# Altium footprint library Microchip PIC32MZ.PcbLib: 15 footprints
Each footprint in its own frame and in the unit in brackets; x right, y up, seen from the top. Pads: shape width x height; smd on the part's side, far side on the other; paste and mask are expansions set on the pad; w line width, h text height; cw(c..) or ccw(c..) is an arc to the next point about the centre after c.
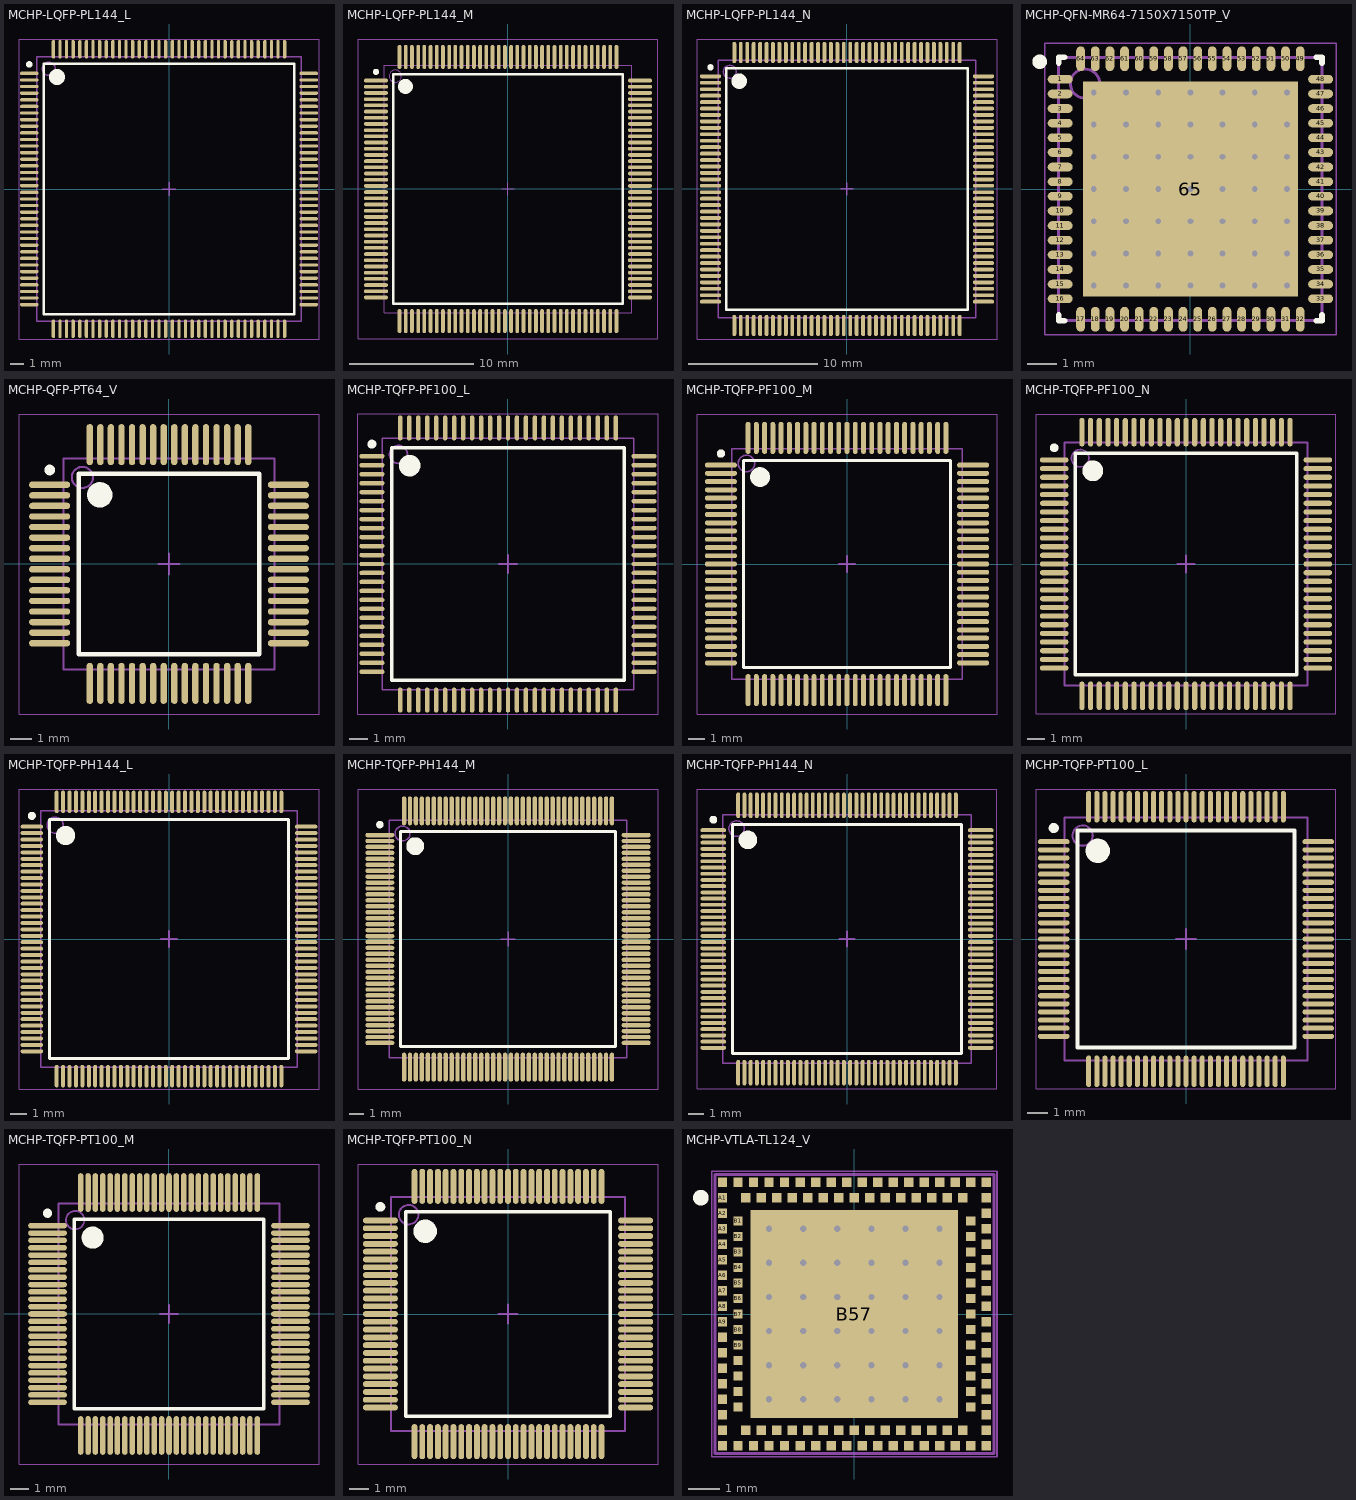
[diagram p0: the footprints below, top view; thin cyan lines are the x and y axes]

## MCHP-LQFP-PL144_L [mm] "QFP, 144-Leads, Body 20x20mm, Pitch 0.5mm, IPC High Density"
height 1.6
pads (144):
  oval 1.4x0.25 smd: 1(-10.575,8.75) 2(-10.575,8.25) 3(-10.575,7.75) 4(-10.575,7.25) 5(-10.575,6.75) 6(-10.575,6.25) 7(-10.575,5.75) 8(-10.575,5.25) 9(-10.575,4.75) 10(-10.575,4.25) 11(-10.575,3.75) 12(-10.575,3.25) 13(-10.575,2.75) 14(-10.575,2.25) 15(-10.575,1.75) 16(-10.575,1.25) 17(-10.575,0.75) 18(-10.575,0.25) 19(-10.575,-0.25) 20(-10.575,-0.75) 21(-10.575,-1.25) 22(-10.575,-1.75) 23(-10.575,-2.25) 24(-10.575,-2.75) 25(-10.575,-3.25) 26(-10.575,-3.75) 27(-10.575,-4.25) 28(-10.575,-4.75) 29(-10.575,-5.25) 30(-10.575,-5.75) 31(-10.575,-6.25) 32(-10.575,-6.75) 33(-10.575,-7.25) 34(-10.575,-7.75) 35(-10.575,-8.25) 36(-10.575,-8.75) 73(10.575,-8.75) 74(10.575,-8.25) 75(10.575,-7.75) 76(10.575,-7.25) 77(10.575,-6.75) 78(10.575,-6.25) 79(10.575,-5.75) 80(10.575,-5.25) 81(10.575,-4.75) 82(10.575,-4.25) 83(10.575,-3.75) 84(10.575,-3.25) 85(10.575,-2.75) 86(10.575,-2.25) 87(10.575,-1.75) 88(10.575,-1.25) 89(10.575,-0.75) 90(10.575,-0.25) 91(10.575,0.25) 92(10.575,0.75) 93(10.575,1.25) 94(10.575,1.75) 95(10.575,2.25) 96(10.575,2.75) 97(10.575,3.25) 98(10.575,3.75) 99(10.575,4.25) 100(10.575,4.75) 101(10.575,5.25) 102(10.575,5.75) 103(10.575,6.25) 104(10.575,6.75) 105(10.575,7.25) 106(10.575,7.75) 107(10.575,8.25) 108(10.575,8.75)
  oval 0.25x1.4 smd: 37(-8.75,-10.575) 38(-8.25,-10.575) 39(-7.75,-10.575) 40(-7.25,-10.575) 41(-6.75,-10.575) 42(-6.25,-10.575) 43(-5.75,-10.575) 44(-5.25,-10.575) 45(-4.75,-10.575) 46(-4.25,-10.575) 47(-3.75,-10.575) 48(-3.25,-10.575) 49(-2.75,-10.575) 50(-2.25,-10.575) 51(-1.75,-10.575) 52(-1.25,-10.575) 53(-0.75,-10.575) 54(-0.25,-10.575) 55(0.25,-10.575) 56(0.75,-10.575) 57(1.25,-10.575) 58(1.75,-10.575) 59(2.25,-10.575) 60(2.75,-10.575) 61(3.25,-10.575) 62(3.75,-10.575) 63(4.25,-10.575) 64(4.75,-10.575) 65(5.25,-10.575) 66(5.75,-10.575) 67(6.25,-10.575) 68(6.75,-10.575) 69(7.25,-10.575) 70(7.75,-10.575) 71(8.25,-10.575) 72(8.75,-10.575) 109(8.75,10.575) 110(8.25,10.575) 111(7.75,10.575) 112(7.25,10.575) 113(6.75,10.575) 114(6.25,10.575) 115(5.75,10.575) 116(5.25,10.575) 117(4.75,10.575) 118(4.25,10.575) 119(3.75,10.575) 120(3.25,10.575) 121(2.75,10.575) 122(2.25,10.575) 123(1.75,10.575) 124(1.25,10.575) 125(0.75,10.575) 126(0.25,10.575) 127(-0.25,10.575) 128(-0.75,10.575) 129(-1.25,10.575) 130(-1.75,10.575) 131(-2.25,10.575) 132(-2.75,10.575) 133(-3.25,10.575) 134(-3.75,10.575) 135(-4.25,10.575) 136(-4.75,10.575) 137(-5.25,10.575) 138(-5.75,10.575) 139(-6.25,10.575) 140(-6.75,10.575) 141(-7.25,10.575) 142(-7.75,10.575) 143(-8.25,10.575) 144(-8.75,10.575)
Top Overlay:
  circle w0.25: c-10.575,9.425 r0.125
  circle w0.6: c-8.475,8.475 r0.3
  lines w0.2: -9.475,-9.475 -9.475,9.475 9.475,9.475 9.475,-9.475 -9.475,-9.475
Mechanical 13:
  circle w0.1: c-9.1,9.1 r0.5
  lines w0.1: -10,-10 -10,10 10,10 10,-10 -10,-10
Mechanical 15:
  lines w0.05: -11.35,-11.35 -11.35,11.35 11.35,11.35 11.35,-11.35 -11.35,-11.35
  lines w0.1: -0.5,0 0.5,0 ; 0,-0.5 0,0.5
3D body: height 1.6, standoff 0.05, extent -10,-10 10,10

## MCHP-LQFP-PL144_M [mm] "QFP, 144-Leads, Body 20x20mm, Pitch 0.5mm, IPC Low Density"
height 1.6
pads (144):
  oval 1.95x0.3 smd: 1(-10.65,8.75) 2(-10.65,8.25) 3(-10.65,7.75) 4(-10.65,7.25) 5(-10.65,6.75) 6(-10.65,6.25) 7(-10.65,5.75) 8(-10.65,5.25) 9(-10.65,4.75) 10(-10.65,4.25) 11(-10.65,3.75) 12(-10.65,3.25) 13(-10.65,2.75) 14(-10.65,2.25) 15(-10.65,1.75) 16(-10.65,1.25) 17(-10.65,0.75) 18(-10.65,0.25) 19(-10.65,-0.25) 20(-10.65,-0.75) 21(-10.65,-1.25) 22(-10.65,-1.75) 23(-10.65,-2.25) 24(-10.65,-2.75) 25(-10.65,-3.25) 26(-10.65,-3.75) 27(-10.65,-4.25) 28(-10.65,-4.75) 29(-10.65,-5.25) 30(-10.65,-5.75) 31(-10.65,-6.25) 32(-10.65,-6.75) 33(-10.65,-7.25) 34(-10.65,-7.75) 35(-10.65,-8.25) 36(-10.65,-8.75) 73(10.65,-8.75) 74(10.65,-8.25) 75(10.65,-7.75) 76(10.65,-7.25) 77(10.65,-6.75) 78(10.65,-6.25) 79(10.65,-5.75) 80(10.65,-5.25) 81(10.65,-4.75) 82(10.65,-4.25) 83(10.65,-3.75) 84(10.65,-3.25) 85(10.65,-2.75) 86(10.65,-2.25) 87(10.65,-1.75) 88(10.65,-1.25) 89(10.65,-0.75) 90(10.65,-0.25) 91(10.65,0.25) 92(10.65,0.75) 93(10.65,1.25) 94(10.65,1.75) 95(10.65,2.25) 96(10.65,2.75) 97(10.65,3.25) 98(10.65,3.75) 99(10.65,4.25) 100(10.65,4.75) 101(10.65,5.25) 102(10.65,5.75) 103(10.65,6.25) 104(10.65,6.75) 105(10.65,7.25) 106(10.65,7.75) 107(10.65,8.25) 108(10.65,8.75)
  oval 0.3x1.95 smd: 37(-8.75,-10.65) 38(-8.25,-10.65) 39(-7.75,-10.65) 40(-7.25,-10.65) 41(-6.75,-10.65) 42(-6.25,-10.65) 43(-5.75,-10.65) 44(-5.25,-10.65) 45(-4.75,-10.65) 46(-4.25,-10.65) 47(-3.75,-10.65) 48(-3.25,-10.65) 49(-2.75,-10.65) 50(-2.25,-10.65) 51(-1.75,-10.65) 52(-1.25,-10.65) 53(-0.75,-10.65) 54(-0.25,-10.65) 55(0.25,-10.65) 56(0.75,-10.65) 57(1.25,-10.65) 58(1.75,-10.65) 59(2.25,-10.65) 60(2.75,-10.65) 61(3.25,-10.65) 62(3.75,-10.65) 63(4.25,-10.65) 64(4.75,-10.65) 65(5.25,-10.65) 66(5.75,-10.65) 67(6.25,-10.65) 68(6.75,-10.65) 69(7.25,-10.65) 70(7.75,-10.65) 71(8.25,-10.65) 72(8.75,-10.65) 109(8.75,10.65) 110(8.25,10.65) 111(7.75,10.65) 112(7.25,10.65) 113(6.75,10.65) 114(6.25,10.65) 115(5.75,10.65) 116(5.25,10.65) 117(4.75,10.65) 118(4.25,10.65) 119(3.75,10.65) 120(3.25,10.65) 121(2.75,10.65) 122(2.25,10.65) 123(1.75,10.65) 124(1.25,10.65) 125(0.75,10.65) 126(0.25,10.65) 127(-0.25,10.65) 128(-0.75,10.65) 129(-1.25,10.65) 130(-1.75,10.65) 131(-2.25,10.65) 132(-2.75,10.65) 133(-3.25,10.65) 134(-3.75,10.65) 135(-4.25,10.65) 136(-4.75,10.65) 137(-5.25,10.65) 138(-5.75,10.65) 139(-6.25,10.65) 140(-6.75,10.65) 141(-7.25,10.65) 142(-7.75,10.65) 143(-8.25,10.65) 144(-8.75,10.65)
Top Overlay:
  circle w0.25: c-10.65,9.45 r0.125
  circle w0.6: c-8.275,8.275 r0.3
  lines w0.2: -9.275,-9.275 -9.275,9.275 9.275,9.275 9.275,-9.275 -9.275,-9.275
Mechanical 13:
  circle w0.1: c-9.1,9.1 r0.5
  lines w0.1: -10,-10 -10,10 10,10 10,-10 -10,-10
Mechanical 15:
  lines w0.05: -12.1,-12.1 -12.1,12.1 12.1,12.1 12.1,-12.1 -12.1,-12.1
  lines w0.1: -0.5,0 0.5,0 ; 0,-0.5 0,0.5
3D body: height 1.6, standoff 0.05, extent -10,-10 10,10

## MCHP-LQFP-PL144_N [mm] "QFP, 144-Leads, Body 20x20mm, Pitch 0.5mm, IPC Medium Density"
height 1.6
pads (144):
  oval 1.65x0.3 smd: 1(-10.6,8.75) 2(-10.6,8.25) 3(-10.6,7.75) 4(-10.6,7.25) 5(-10.6,6.75) 6(-10.6,6.25) 7(-10.6,5.75) 8(-10.6,5.25) 9(-10.6,4.75) 10(-10.6,4.25) 11(-10.6,3.75) 12(-10.6,3.25) 13(-10.6,2.75) 14(-10.6,2.25) 15(-10.6,1.75) 16(-10.6,1.25) 17(-10.6,0.75) 18(-10.6,0.25) 19(-10.6,-0.25) 20(-10.6,-0.75) 21(-10.6,-1.25) 22(-10.6,-1.75) 23(-10.6,-2.25) 24(-10.6,-2.75) 25(-10.6,-3.25) 26(-10.6,-3.75) 27(-10.6,-4.25) 28(-10.6,-4.75) 29(-10.6,-5.25) 30(-10.6,-5.75) 31(-10.6,-6.25) 32(-10.6,-6.75) 33(-10.6,-7.25) 34(-10.6,-7.75) 35(-10.6,-8.25) 36(-10.6,-8.75) 73(10.6,-8.75) 74(10.6,-8.25) 75(10.6,-7.75) 76(10.6,-7.25) 77(10.6,-6.75) 78(10.6,-6.25) 79(10.6,-5.75) 80(10.6,-5.25) 81(10.6,-4.75) 82(10.6,-4.25) 83(10.6,-3.75) 84(10.6,-3.25) 85(10.6,-2.75) 86(10.6,-2.25) 87(10.6,-1.75) 88(10.6,-1.25) 89(10.6,-0.75) 90(10.6,-0.25) 91(10.6,0.25) 92(10.6,0.75) 93(10.6,1.25) 94(10.6,1.75) 95(10.6,2.25) 96(10.6,2.75) 97(10.6,3.25) 98(10.6,3.75) 99(10.6,4.25) 100(10.6,4.75) 101(10.6,5.25) 102(10.6,5.75) 103(10.6,6.25) 104(10.6,6.75) 105(10.6,7.25) 106(10.6,7.75) 107(10.6,8.25) 108(10.6,8.75)
  oval 0.3x1.65 smd: 37(-8.75,-10.6) 38(-8.25,-10.6) 39(-7.75,-10.6) 40(-7.25,-10.6) 41(-6.75,-10.6) 42(-6.25,-10.6) 43(-5.75,-10.6) 44(-5.25,-10.6) 45(-4.75,-10.6) 46(-4.25,-10.6) 47(-3.75,-10.6) 48(-3.25,-10.6) 49(-2.75,-10.6) 50(-2.25,-10.6) 51(-1.75,-10.6) 52(-1.25,-10.6) 53(-0.75,-10.6) 54(-0.25,-10.6) 55(0.25,-10.6) 56(0.75,-10.6) 57(1.25,-10.6) 58(1.75,-10.6) 59(2.25,-10.6) 60(2.75,-10.6) 61(3.25,-10.6) 62(3.75,-10.6) 63(4.25,-10.6) 64(4.75,-10.6) 65(5.25,-10.6) 66(5.75,-10.6) 67(6.25,-10.6) 68(6.75,-10.6) 69(7.25,-10.6) 70(7.75,-10.6) 71(8.25,-10.6) 72(8.75,-10.6) 109(8.75,10.6) 110(8.25,10.6) 111(7.75,10.6) 112(7.25,10.6) 113(6.75,10.6) 114(6.25,10.6) 115(5.75,10.6) 116(5.25,10.6) 117(4.75,10.6) 118(4.25,10.6) 119(3.75,10.6) 120(3.25,10.6) 121(2.75,10.6) 122(2.25,10.6) 123(1.75,10.6) 124(1.25,10.6) 125(0.75,10.6) 126(0.25,10.6) 127(-0.25,10.6) 128(-0.75,10.6) 129(-1.25,10.6) 130(-1.75,10.6) 131(-2.25,10.6) 132(-2.75,10.6) 133(-3.25,10.6) 134(-3.75,10.6) 135(-4.25,10.6) 136(-4.75,10.6) 137(-5.25,10.6) 138(-5.75,10.6) 139(-6.25,10.6) 140(-6.75,10.6) 141(-7.25,10.6) 142(-7.75,10.6) 143(-8.25,10.6) 144(-8.75,10.6)
Top Overlay:
  circle w0.25: c-10.6,9.45 r0.125
  circle w0.6: c-8.375,8.375 r0.3
  lines w0.2: -9.375,-9.375 -9.375,9.375 9.375,9.375 9.375,-9.375 -9.375,-9.375
Mechanical 13:
  circle w0.1: c-9.1,9.1 r0.5
  lines w0.1: -10,-10 -10,10 10,10 10,-10 -10,-10
Mechanical 15:
  lines w0.05: -11.65,-11.65 -11.65,11.65 11.65,11.65 11.65,-11.65 -11.65,-11.65
  lines w0.1: -0.5,0 0.5,0 ; 0,-0.5 0,0.5
3D body: height 1.6, standoff 0.05, extent -10,-10 10,10

## MCHP-QFN-MR64-7150X7150TP_V [mm] "QFN, 64-Leads, Body 9x9mm, Pitch 0.5mm, Thermal Pad 7.15X7.15mm"
height 0.8
pads (65):
  oval 0.85x0.3 smd: 1(-4.45,3.75) 2(-4.45,3.25) 3(-4.45,2.75) 4(-4.45,2.25) 5(-4.45,1.75) 6(-4.45,1.25) 7(-4.45,0.75) 8(-4.45,0.25) 9(-4.45,-0.25) 10(-4.45,-0.75) 11(-4.45,-1.25) 12(-4.45,-1.75) 13(-4.45,-2.25) 14(-4.45,-2.75) 15(-4.45,-3.25) 16(-4.45,-3.75) 33(4.45,-3.75) 34(4.45,-3.25) 35(4.45,-2.75) 36(4.45,-2.25) 37(4.45,-1.75) 38(4.45,-1.25) 39(4.45,-0.75) 40(4.45,-0.25) 41(4.45,0.25) 42(4.45,0.75) 43(4.45,1.25) 44(4.45,1.75) 45(4.45,2.25) 46(4.45,2.75) 47(4.45,3.25) 48(4.45,3.75)
  oval 0.3x0.85 smd: 17(-3.75,-4.45) 18(-3.25,-4.45) 19(-2.75,-4.45) 20(-2.25,-4.45) 21(-1.75,-4.45) 22(-1.25,-4.45) 23(-0.75,-4.45) 24(-0.25,-4.45) 25(0.25,-4.45) 26(0.75,-4.45) 27(1.25,-4.45) 28(1.75,-4.45) 29(2.25,-4.45) 30(2.75,-4.45) 31(3.25,-4.45) 32(3.75,-4.45) 49(3.75,4.45) 50(3.25,4.45) 51(2.75,4.45) 52(2.25,4.45) 53(1.75,4.45) 54(1.25,4.45) 55(0.75,4.45) 56(0.25,4.45) 57(-0.25,4.45) 58(-0.75,4.45) 59(-1.25,4.45) 60(-1.75,4.45) 61(-2.25,4.45) 62(-2.75,4.45) 63(-3.25,4.45) 64(-3.75,4.45)
  rect 7.35x7.35 smd: 65(0,0)
via -3.3,3.3 diameter 0.5 hole 0.2
via -2.2,3.3 diameter 0.5 hole 0.2
via -1.1,3.3 diameter 0.5 hole 0.2
via 0,3.3 diameter 0.5 hole 0.2
via 1.1,3.3 diameter 0.5 hole 0.2
via 2.2,3.3 diameter 0.5 hole 0.2
via 3.3,3.3 diameter 0.5 hole 0.2
via -3.3,2.2 diameter 0.5 hole 0.2
via -2.2,2.2 diameter 0.5 hole 0.2
via -1.1,2.2 diameter 0.5 hole 0.2
via 0,2.2 diameter 0.5 hole 0.2
via 1.1,2.2 diameter 0.5 hole 0.2
via 2.2,2.2 diameter 0.5 hole 0.2
via 3.3,2.2 diameter 0.5 hole 0.2
via -3.3,1.1 diameter 0.5 hole 0.2
via -2.2,1.1 diameter 0.5 hole 0.2
via -1.1,1.1 diameter 0.5 hole 0.2
via 0,1.1 diameter 0.5 hole 0.2
via 1.1,1.1 diameter 0.5 hole 0.2
via 2.2,1.1 diameter 0.5 hole 0.2
via 3.3,1.1 diameter 0.5 hole 0.2
via -3.3,0 diameter 0.5 hole 0.2
via -2.2,0 diameter 0.5 hole 0.2
via -1.1,0 diameter 0.5 hole 0.2
via 0,0 diameter 0.5 hole 0.2
via 1.1,0 diameter 0.5 hole 0.2
via 2.2,0 diameter 0.5 hole 0.2
via 3.3,0 diameter 0.5 hole 0.2
via -3.3,-1.1 diameter 0.5 hole 0.2
via -2.2,-1.1 diameter 0.5 hole 0.2
via -1.1,-1.1 diameter 0.5 hole 0.2
via 0,-1.1 diameter 0.5 hole 0.2
via 1.1,-1.1 diameter 0.5 hole 0.2
via 2.2,-1.1 diameter 0.5 hole 0.2
via 3.3,-1.1 diameter 0.5 hole 0.2
via -3.3,-2.2 diameter 0.5 hole 0.2
via -2.2,-2.2 diameter 0.5 hole 0.2
via -1.1,-2.2 diameter 0.5 hole 0.2
via 0,-2.2 diameter 0.5 hole 0.2
via 1.1,-2.2 diameter 0.5 hole 0.2
via 2.2,-2.2 diameter 0.5 hole 0.2
via 3.3,-2.2 diameter 0.5 hole 0.2
via -3.3,-3.3 diameter 0.5 hole 0.2
via -2.2,-3.3 diameter 0.5 hole 0.2
via -1.1,-3.3 diameter 0.5 hole 0.2
via 0,-3.3 diameter 0.5 hole 0.2
via 1.1,-3.3 diameter 0.5 hole 0.2
via 2.2,-3.3 diameter 0.5 hole 0.2
via 3.3,-3.3 diameter 0.5 hole 0.2
Top Overlay:
  circle w0.25: c-5.15,4.35 r0.125
  lines w0.2: -4.5,-4.3 -4.5,-4.5 -4.3,-4.5 ; -4.5,4.3 -4.5,4.5 -4.3,4.5 ; 4.3,-4.5 4.5,-4.5 4.5,-4.3 ; 4.3,4.5 4.5,4.5 4.5,4.3
Mechanical 13:
  circle w0.1: c-3.6,3.6 r0.5
  lines w0.1: -4.5,-4.5 -4.5,4.5 4.5,4.5 4.5,-4.5 -4.5,-4.5
Mechanical 15:
  lines w0.05: -4.975,-4.975 -4.975,4.975 4.975,4.975 4.975,-4.975 -4.975,-4.975
  lines w0.1: -0.5,0 0.5,0 ; 0,-0.5 0,0.5
3D body: height 0.8, standoff 0, extent -4.5,-4.5 4.5,4.5

## MCHP-QFP-PT64_V [mm] "QFP, 64-Leads, Body 10x10mm, Pitch 0.5mm"
height 1.2
pads (64):
  oval 1.95x0.3 smd: 1(-5.65,3.75) 2(-5.65,3.25) 3(-5.65,2.75) 4(-5.65,2.25) 5(-5.65,1.75) 6(-5.65,1.25) 7(-5.65,0.75) 8(-5.65,0.25) 9(-5.65,-0.25) 10(-5.65,-0.75) 11(-5.65,-1.25) 12(-5.65,-1.75) 13(-5.65,-2.25) 14(-5.65,-2.75) 15(-5.65,-3.25) 16(-5.65,-3.75) 33(5.65,-3.75) 34(5.65,-3.25) 35(5.65,-2.75) 36(5.65,-2.25) 37(5.65,-1.75) 38(5.65,-1.25) 39(5.65,-0.75) 40(5.65,-0.25) 41(5.65,0.25) 42(5.65,0.75) 43(5.65,1.25) 44(5.65,1.75) 45(5.65,2.25) 46(5.65,2.75) 47(5.65,3.25) 48(5.65,3.75)
  oval 0.3x1.95 smd: 17(-3.75,-5.65) 18(-3.25,-5.65) 19(-2.75,-5.65) 20(-2.25,-5.65) 21(-1.75,-5.65) 22(-1.25,-5.65) 23(-0.75,-5.65) 24(-0.25,-5.65) 25(0.25,-5.65) 26(0.75,-5.65) 27(1.25,-5.65) 28(1.75,-5.65) 29(2.25,-5.65) 30(2.75,-5.65) 31(3.25,-5.65) 32(3.75,-5.65) 49(3.75,5.65) 50(3.25,5.65) 51(2.75,5.65) 52(2.25,5.65) 53(1.75,5.65) 54(1.25,5.65) 55(0.75,5.65) 56(0.25,5.65) 57(-0.25,5.65) 58(-0.75,5.65) 59(-1.25,5.65) 60(-1.75,5.65) 61(-2.25,5.65) 62(-2.75,5.65) 63(-3.25,5.65) 64(-3.75,5.65)
Top Overlay:
  circle w0.6: c-3.275,3.275 r0.3
  circle w0.25: c-5.65,4.45 r0.125
  lines w0.2: -4.275,-4.275 4.275,-4.275 4.275,4.275 -4.275,4.275 -4.275,-4.275
Mechanical 13:
  circle w0.1: c-4.1,4.1 r0.5
  lines w0.1: -5,-5 5,-5 5,5 -5,5 -5,-5
Mechanical 15:
  lines w0.05: -7.1,-7.1 7.1,-7.1 7.1,7.1 -7.1,7.1 -7.1,-7.1
  lines w0.1: -0.5,0 0.5,0 ; 0,-0.5 0,0.5
3D body: height 1.2, standoff 0.05, extent -5,-5 5,5

## MCHP-TQFP-PF100_L [mm] "QFP, 100-Leads, Body 14x14mm, Pitch 0.5mm, IPC High Density"
height 1.2
pads (100):
  oval 1.4x0.25 smd: 1(-7.575,6) 2(-7.575,5.5) 3(-7.575,5) 4(-7.575,4.5) 5(-7.575,4) 6(-7.575,3.5) 7(-7.575,3) 8(-7.575,2.5) 9(-7.575,2) 10(-7.575,1.5) 11(-7.575,1) 12(-7.575,0.5) 13(-7.575,0) 14(-7.575,-0.5) 15(-7.575,-1) 16(-7.575,-1.5) 17(-7.575,-2) 18(-7.575,-2.5) 19(-7.575,-3) 20(-7.575,-3.5) 21(-7.575,-4) 22(-7.575,-4.5) 23(-7.575,-5) 24(-7.575,-5.5) 25(-7.575,-6) 51(7.575,-6) 52(7.575,-5.5) 53(7.575,-5) 54(7.575,-4.5) 55(7.575,-4) 56(7.575,-3.5) 57(7.575,-3) 58(7.575,-2.5) 59(7.575,-2) 60(7.575,-1.5) 61(7.575,-1) 62(7.575,-0.5) 63(7.575,0) 64(7.575,0.5) 65(7.575,1) 66(7.575,1.5) 67(7.575,2) 68(7.575,2.5) 69(7.575,3) 70(7.575,3.5) 71(7.575,4) 72(7.575,4.5) 73(7.575,5) 74(7.575,5.5) 75(7.575,6)
  oval 0.25x1.4 smd: 26(-6,-7.575) 27(-5.5,-7.575) 28(-5,-7.575) 29(-4.5,-7.575) 30(-4,-7.575) 31(-3.5,-7.575) 32(-3,-7.575) 33(-2.5,-7.575) 34(-2,-7.575) 35(-1.5,-7.575) 36(-1,-7.575) 37(-0.5,-7.575) 38(0,-7.575) 39(0.5,-7.575) 40(1,-7.575) 41(1.5,-7.575) 42(2,-7.575) 43(2.5,-7.575) 44(3,-7.575) 45(3.5,-7.575) 46(4,-7.575) 47(4.5,-7.575) 48(5,-7.575) 49(5.5,-7.575) 50(6,-7.575) 76(6,7.575) 77(5.5,7.575) 78(5,7.575) 79(4.5,7.575) 80(4,7.575) 81(3.5,7.575) 82(3,7.575) 83(2.5,7.575) 84(2,7.575) 85(1.5,7.575) 86(1,7.575) 87(0.5,7.575) 88(0,7.575) 89(-0.5,7.575) 90(-1,7.575) 91(-1.5,7.575) 92(-2,7.575) 93(-2.5,7.575) 94(-3,7.575) 95(-3.5,7.575) 96(-4,7.575) 97(-4.5,7.575) 98(-5,7.575) 99(-5.5,7.575) 100(-6,7.575)
Top Overlay:
  circle w0.25: c-7.575,6.675 r0.125
  circle w0.6: c-5.475,5.475 r0.3
  lines w0.2: -6.475,-6.475 -6.475,6.475 6.475,6.475 6.475,-6.475 -6.475,-6.475
Mechanical 13:
  circle w0.1: c-6.1,6.1 r0.5
  lines w0.1: -7,-7 -7,7 7,7 7,-7 -7,-7
Mechanical 15:
  lines w0.05: -8.35,-8.35 -8.35,8.35 8.35,8.35 8.35,-8.35 -8.35,-8.35
  lines w0.1: -0.5,0 0.5,0 ; 0,-0.5 0,0.5
3D body: height 1.2, standoff 0.05, extent -7,-7 7,7

## MCHP-TQFP-PF100_M [mm] "QFP, 100-Leads, Body 14x14mm, Pitch 0.5mm, IPC Low Density"
height 1.2
pads (100):
  oval 1.95x0.3 smd: 1(-7.65,6) 2(-7.65,5.5) 3(-7.65,5) 4(-7.65,4.5) 5(-7.65,4) 6(-7.65,3.5) 7(-7.65,3) 8(-7.65,2.5) 9(-7.65,2) 10(-7.65,1.5) 11(-7.65,1) 12(-7.65,0.5) 13(-7.65,0) 14(-7.65,-0.5) 15(-7.65,-1) 16(-7.65,-1.5) 17(-7.65,-2) 18(-7.65,-2.5) 19(-7.65,-3) 20(-7.65,-3.5) 21(-7.65,-4) 22(-7.65,-4.5) 23(-7.65,-5) 24(-7.65,-5.5) 25(-7.65,-6) 51(7.65,-6) 52(7.65,-5.5) 53(7.65,-5) 54(7.65,-4.5) 55(7.65,-4) 56(7.65,-3.5) 57(7.65,-3) 58(7.65,-2.5) 59(7.65,-2) 60(7.65,-1.5) 61(7.65,-1) 62(7.65,-0.5) 63(7.65,0) 64(7.65,0.5) 65(7.65,1) 66(7.65,1.5) 67(7.65,2) 68(7.65,2.5) 69(7.65,3) 70(7.65,3.5) 71(7.65,4) 72(7.65,4.5) 73(7.65,5) 74(7.65,5.5) 75(7.65,6)
  oval 0.3x1.95 smd: 26(-6,-7.65) 27(-5.5,-7.65) 28(-5,-7.65) 29(-4.5,-7.65) 30(-4,-7.65) 31(-3.5,-7.65) 32(-3,-7.65) 33(-2.5,-7.65) 34(-2,-7.65) 35(-1.5,-7.65) 36(-1,-7.65) 37(-0.5,-7.65) 38(0,-7.65) 39(0.5,-7.65) 40(1,-7.65) 41(1.5,-7.65) 42(2,-7.65) 43(2.5,-7.65) 44(3,-7.65) 45(3.5,-7.65) 46(4,-7.65) 47(4.5,-7.65) 48(5,-7.65) 49(5.5,-7.65) 50(6,-7.65) 76(6,7.65) 77(5.5,7.65) 78(5,7.65) 79(4.5,7.65) 80(4,7.65) 81(3.5,7.65) 82(3,7.65) 83(2.5,7.65) 84(2,7.65) 85(1.5,7.65) 86(1,7.65) 87(0.5,7.65) 88(0,7.65) 89(-0.5,7.65) 90(-1,7.65) 91(-1.5,7.65) 92(-2,7.65) 93(-2.5,7.65) 94(-3,7.65) 95(-3.5,7.65) 96(-4,7.65) 97(-4.5,7.65) 98(-5,7.65) 99(-5.5,7.65) 100(-6,7.65)
Top Overlay:
  circle w0.25: c-7.65,6.7 r0.125
  circle w0.6: c-5.275,5.275 r0.3
  lines w0.2: -6.275,-6.275 -6.275,6.275 6.275,6.275 6.275,-6.275 -6.275,-6.275
Mechanical 13:
  circle w0.1: c-6.1,6.1 r0.5
  lines w0.1: -7,-7 -7,7 7,7 7,-7 -7,-7
Mechanical 15:
  lines w0.05: -9.1,-9.1 -9.1,9.1 9.1,9.1 9.1,-9.1 -9.1,-9.1
  lines w0.1: -0.5,0 0.5,0 ; 0,-0.5 0,0.5
3D body: height 1.2, standoff 0.05, extent -7,-7 7,7

## MCHP-TQFP-PF100_N [mm] "QFP, 100-Leads, Body 14x14mm, Pitch 0.5mm, IPC Medium Density"
height 1.2
pads (100):
  oval 1.65x0.3 smd: 1(-7.6,6) 2(-7.6,5.5) 3(-7.6,5) 4(-7.6,4.5) 5(-7.6,4) 6(-7.6,3.5) 7(-7.6,3) 8(-7.6,2.5) 9(-7.6,2) 10(-7.6,1.5) 11(-7.6,1) 12(-7.6,0.5) 13(-7.6,0) 14(-7.6,-0.5) 15(-7.6,-1) 16(-7.6,-1.5) 17(-7.6,-2) 18(-7.6,-2.5) 19(-7.6,-3) 20(-7.6,-3.5) 21(-7.6,-4) 22(-7.6,-4.5) 23(-7.6,-5) 24(-7.6,-5.5) 25(-7.6,-6) 51(7.6,-6) 52(7.6,-5.5) 53(7.6,-5) 54(7.6,-4.5) 55(7.6,-4) 56(7.6,-3.5) 57(7.6,-3) 58(7.6,-2.5) 59(7.6,-2) 60(7.6,-1.5) 61(7.6,-1) 62(7.6,-0.5) 63(7.6,0) 64(7.6,0.5) 65(7.6,1) 66(7.6,1.5) 67(7.6,2) 68(7.6,2.5) 69(7.6,3) 70(7.6,3.5) 71(7.6,4) 72(7.6,4.5) 73(7.6,5) 74(7.6,5.5) 75(7.6,6)
  oval 0.3x1.65 smd: 26(-6,-7.6) 27(-5.5,-7.6) 28(-5,-7.6) 29(-4.5,-7.6) 30(-4,-7.6) 31(-3.5,-7.6) 32(-3,-7.6) 33(-2.5,-7.6) 34(-2,-7.6) 35(-1.5,-7.6) 36(-1,-7.6) 37(-0.5,-7.6) 38(0,-7.6) 39(0.5,-7.6) 40(1,-7.6) 41(1.5,-7.6) 42(2,-7.6) 43(2.5,-7.6) 44(3,-7.6) 45(3.5,-7.6) 46(4,-7.6) 47(4.5,-7.6) 48(5,-7.6) 49(5.5,-7.6) 50(6,-7.6) 76(6,7.6) 77(5.5,7.6) 78(5,7.6) 79(4.5,7.6) 80(4,7.6) 81(3.5,7.6) 82(3,7.6) 83(2.5,7.6) 84(2,7.6) 85(1.5,7.6) 86(1,7.6) 87(0.5,7.6) 88(0,7.6) 89(-0.5,7.6) 90(-1,7.6) 91(-1.5,7.6) 92(-2,7.6) 93(-2.5,7.6) 94(-3,7.6) 95(-3.5,7.6) 96(-4,7.6) 97(-4.5,7.6) 98(-5,7.6) 99(-5.5,7.6) 100(-6,7.6)
Top Overlay:
  circle w0.25: c-7.6,6.7 r0.125
  circle w0.6: c-5.375,5.375 r0.3
  lines w0.2: -6.375,-6.375 -6.375,6.375 6.375,6.375 6.375,-6.375 -6.375,-6.375
Mechanical 13:
  circle w0.1: c-6.1,6.1 r0.5
  lines w0.1: -7,-7 -7,7 7,7 7,-7 -7,-7
Mechanical 15:
  lines w0.05: -8.65,-8.65 -8.65,8.65 8.65,8.65 8.65,-8.65 -8.65,-8.65
  lines w0.1: -0.5,0 0.5,0 ; 0,-0.5 0,0.5
3D body: height 1.2, standoff 0.05, extent -7,-7 7,7

## MCHP-TQFP-PH144_L [mm] "QFP, 144-Leads, Body 16x16mm, Pitch 0.4mm, IPC High Density"
height 1.2
pads (144):
  oval 1.4x0.25 smd: 1(-8.55,7) 2(-8.55,6.6) 3(-8.55,6.2) 4(-8.55,5.8) 5(-8.55,5.4) 6(-8.55,5) 7(-8.55,4.6) 8(-8.55,4.2) 9(-8.55,3.8) 10(-8.55,3.4) 11(-8.55,3) 12(-8.55,2.6) 13(-8.55,2.2) 14(-8.55,1.8) 15(-8.55,1.4) 16(-8.55,1) 17(-8.55,0.6) 18(-8.55,0.2) 19(-8.55,-0.2) 20(-8.55,-0.6) 21(-8.55,-1) 22(-8.55,-1.4) 23(-8.55,-1.8) 24(-8.55,-2.2) 25(-8.55,-2.6) 26(-8.55,-3) 27(-8.55,-3.4) 28(-8.55,-3.8) 29(-8.55,-4.2) 30(-8.55,-4.6) 31(-8.55,-5) 32(-8.55,-5.4) 33(-8.55,-5.8) 34(-8.55,-6.2) 35(-8.55,-6.6) 36(-8.55,-7) 73(8.55,-7) 74(8.55,-6.6) 75(8.55,-6.2) 76(8.55,-5.8) 77(8.55,-5.4) 78(8.55,-5) 79(8.55,-4.6) 80(8.55,-4.2) 81(8.55,-3.8) 82(8.55,-3.4) 83(8.55,-3) 84(8.55,-2.6) 85(8.55,-2.2) 86(8.55,-1.8) 87(8.55,-1.4) 88(8.55,-1) 89(8.55,-0.6) 90(8.55,-0.2) 91(8.55,0.2) 92(8.55,0.6) 93(8.55,1) 94(8.55,1.4) 95(8.55,1.8) 96(8.55,2.2) 97(8.55,2.6) 98(8.55,3) 99(8.55,3.4) 100(8.55,3.8) 101(8.55,4.2) 102(8.55,4.6) 103(8.55,5) 104(8.55,5.4) 105(8.55,5.8) 106(8.55,6.2) 107(8.55,6.6) 108(8.55,7)
  oval 0.25x1.4 smd: 37(-7,-8.55) 38(-6.6,-8.55) 39(-6.2,-8.55) 40(-5.8,-8.55) 41(-5.4,-8.55) 42(-5,-8.55) 43(-4.6,-8.55) 44(-4.2,-8.55) 45(-3.8,-8.55) 46(-3.4,-8.55) 47(-3,-8.55) 48(-2.6,-8.55) 49(-2.2,-8.55) 50(-1.8,-8.55) 51(-1.4,-8.55) 52(-1,-8.55) 53(-0.6,-8.55) 54(-0.2,-8.55) 55(0.2,-8.55) 56(0.6,-8.55) 57(1,-8.55) 58(1.4,-8.55) 59(1.8,-8.55) 60(2.2,-8.55) 61(2.6,-8.55) 62(3,-8.55) 63(3.4,-8.55) 64(3.8,-8.55) 65(4.2,-8.55) 66(4.6,-8.55) 67(5,-8.55) 68(5.4,-8.55) 69(5.8,-8.55) 70(6.2,-8.55) 71(6.6,-8.55) 72(7,-8.55) 109(7,8.55) 110(6.6,8.55) 111(6.2,8.55) 112(5.8,8.55) 113(5.4,8.55) 114(5,8.55) 115(4.6,8.55) 116(4.2,8.55) 117(3.8,8.55) 118(3.4,8.55) 119(3,8.55) 120(2.6,8.55) 121(2.2,8.55) 122(1.8,8.55) 123(1.4,8.55) 124(1,8.55) 125(0.6,8.55) 126(0.2,8.55) 127(-0.2,8.55) 128(-0.6,8.55) 129(-1,8.55) 130(-1.4,8.55) 131(-1.8,8.55) 132(-2.2,8.55) 133(-2.6,8.55) 134(-3,8.55) 135(-3.4,8.55) 136(-3.8,8.55) 137(-4.2,8.55) 138(-4.6,8.55) 139(-5,8.55) 140(-5.4,8.55) 141(-5.8,8.55) 142(-6.2,8.55) 143(-6.6,8.55) 144(-7,8.55)
Top Overlay:
  circle w0.25: c-8.55,7.675 r0.125
  circle w0.6: c-6.45,6.45 r0.3
  lines w0.2: -7.45,-7.45 -7.45,7.45 7.45,7.45 7.45,-7.45 -7.45,-7.45
Mechanical 13:
  circle w0.1: c-7.1,7.1 r0.5
  lines w0.1: -8,-8 -8,8 8,8 8,-8 -8,-8
Mechanical 15:
  lines w0.05: -9.35,-9.35 -9.35,9.35 9.35,9.35 9.35,-9.35 -9.35,-9.35
  lines w0.1: -0.5,0 0.5,0 ; 0,-0.5 0,0.5
3D body: height 1.2, standoff 0.05, extent -8,-8 8,8

## MCHP-TQFP-PH144_M [mm] "QFP, 144-Leads, Body 16x16mm, Pitch 0.4mm, IPC Low Density"
height 1.2
pads (144):
  oval 1.95x0.3 smd: 1(-8.625,7) 2(-8.625,6.6) 3(-8.625,6.2) 4(-8.625,5.8) 5(-8.625,5.4) 6(-8.625,5) 7(-8.625,4.6) 8(-8.625,4.2) 9(-8.625,3.8) 10(-8.625,3.4) 11(-8.625,3) 12(-8.625,2.6) 13(-8.625,2.2) 14(-8.625,1.8) 15(-8.625,1.4) 16(-8.625,1) 17(-8.625,0.6) 18(-8.625,0.2) 19(-8.625,-0.2) 20(-8.625,-0.6) 21(-8.625,-1) 22(-8.625,-1.4) 23(-8.625,-1.8) 24(-8.625,-2.2) 25(-8.625,-2.6) 26(-8.625,-3) 27(-8.625,-3.4) 28(-8.625,-3.8) 29(-8.625,-4.2) 30(-8.625,-4.6) 31(-8.625,-5) 32(-8.625,-5.4) 33(-8.625,-5.8) 34(-8.625,-6.2) 35(-8.625,-6.6) 36(-8.625,-7) 73(8.625,-7) 74(8.625,-6.6) 75(8.625,-6.2) 76(8.625,-5.8) 77(8.625,-5.4) 78(8.625,-5) 79(8.625,-4.6) 80(8.625,-4.2) 81(8.625,-3.8) 82(8.625,-3.4) 83(8.625,-3) 84(8.625,-2.6) 85(8.625,-2.2) 86(8.625,-1.8) 87(8.625,-1.4) 88(8.625,-1) 89(8.625,-0.6) 90(8.625,-0.2) 91(8.625,0.2) 92(8.625,0.6) 93(8.625,1) 94(8.625,1.4) 95(8.625,1.8) 96(8.625,2.2) 97(8.625,2.6) 98(8.625,3) 99(8.625,3.4) 100(8.625,3.8) 101(8.625,4.2) 102(8.625,4.6) 103(8.625,5) 104(8.625,5.4) 105(8.625,5.8) 106(8.625,6.2) 107(8.625,6.6) 108(8.625,7)
  oval 0.3x1.95 smd: 37(-7,-8.625) 38(-6.6,-8.625) 39(-6.2,-8.625) 40(-5.8,-8.625) 41(-5.4,-8.625) 42(-5,-8.625) 43(-4.6,-8.625) 44(-4.2,-8.625) 45(-3.8,-8.625) 46(-3.4,-8.625) 47(-3,-8.625) 48(-2.6,-8.625) 49(-2.2,-8.625) 50(-1.8,-8.625) 51(-1.4,-8.625) 52(-1,-8.625) 53(-0.6,-8.625) 54(-0.2,-8.625) 55(0.2,-8.625) 56(0.6,-8.625) 57(1,-8.625) 58(1.4,-8.625) 59(1.8,-8.625) 60(2.2,-8.625) 61(2.6,-8.625) 62(3,-8.625) 63(3.4,-8.625) 64(3.8,-8.625) 65(4.2,-8.625) 66(4.6,-8.625) 67(5,-8.625) 68(5.4,-8.625) 69(5.8,-8.625) 70(6.2,-8.625) 71(6.6,-8.625) 72(7,-8.625) 109(7,8.625) 110(6.6,8.625) 111(6.2,8.625) 112(5.8,8.625) 113(5.4,8.625) 114(5,8.625) 115(4.6,8.625) 116(4.2,8.625) 117(3.8,8.625) 118(3.4,8.625) 119(3,8.625) 120(2.6,8.625) 121(2.2,8.625) 122(1.8,8.625) 123(1.4,8.625) 124(1,8.625) 125(0.6,8.625) 126(0.2,8.625) 127(-0.2,8.625) 128(-0.6,8.625) 129(-1,8.625) 130(-1.4,8.625) 131(-1.8,8.625) 132(-2.2,8.625) 133(-2.6,8.625) 134(-3,8.625) 135(-3.4,8.625) 136(-3.8,8.625) 137(-4.2,8.625) 138(-4.6,8.625) 139(-5,8.625) 140(-5.4,8.625) 141(-5.8,8.625) 142(-6.2,8.625) 143(-6.6,8.625) 144(-7,8.625)
Top Overlay:
  circle w0.25: c-8.625,7.7 r0.125
  circle w0.6: c-6.25,6.25 r0.3
  lines w0.2: -7.25,-7.25 -7.25,7.25 7.25,7.25 7.25,-7.25 -7.25,-7.25
Mechanical 13:
  circle w0.1: c-7.1,7.1 r0.5
  lines w0.1: -8,-8 -8,8 8,8 8,-8 -8,-8
Mechanical 15:
  lines w0.05: -10.1,-10.1 -10.1,10.1 10.1,10.1 10.1,-10.1 -10.1,-10.1
  lines w0.1: -0.5,0 0.5,0 ; 0,-0.5 0,0.5
3D body: height 1.2, standoff 0.05, extent -8,-8 8,8

## MCHP-TQFP-PH144_N [mm] "QFP, 144-Leads, Body 16x16mm, Pitch 0.4mm, IPC Medium Density"
height 1.2
pads (144):
  oval 1.65x0.25 smd: 1(-8.6,7) 2(-8.6,6.6) 3(-8.6,6.2) 4(-8.6,5.8) 5(-8.6,5.4) 6(-8.6,5) 7(-8.6,4.6) 8(-8.6,4.2) 9(-8.6,3.8) 10(-8.6,3.4) 11(-8.6,3) 12(-8.6,2.6) 13(-8.6,2.2) 14(-8.6,1.8) 15(-8.6,1.4) 16(-8.6,1) 17(-8.6,0.6) 18(-8.6,0.2) 19(-8.6,-0.2) 20(-8.6,-0.6) 21(-8.6,-1) 22(-8.6,-1.4) 23(-8.6,-1.8) 24(-8.6,-2.2) 25(-8.6,-2.6) 26(-8.6,-3) 27(-8.6,-3.4) 28(-8.6,-3.8) 29(-8.6,-4.2) 30(-8.6,-4.6) 31(-8.6,-5) 32(-8.6,-5.4) 33(-8.6,-5.8) 34(-8.6,-6.2) 35(-8.6,-6.6) 36(-8.6,-7) 73(8.6,-7) 74(8.6,-6.6) 75(8.6,-6.2) 76(8.6,-5.8) 77(8.6,-5.4) 78(8.6,-5) 79(8.6,-4.6) 80(8.6,-4.2) 81(8.6,-3.8) 82(8.6,-3.4) 83(8.6,-3) 84(8.6,-2.6) 85(8.6,-2.2) 86(8.6,-1.8) 87(8.6,-1.4) 88(8.6,-1) 89(8.6,-0.6) 90(8.6,-0.2) 91(8.6,0.2) 92(8.6,0.6) 93(8.6,1) 94(8.6,1.4) 95(8.6,1.8) 96(8.6,2.2) 97(8.6,2.6) 98(8.6,3) 99(8.6,3.4) 100(8.6,3.8) 101(8.6,4.2) 102(8.6,4.6) 103(8.6,5) 104(8.6,5.4) 105(8.6,5.8) 106(8.6,6.2) 107(8.6,6.6) 108(8.6,7)
  oval 0.25x1.65 smd: 37(-7,-8.6) 38(-6.6,-8.6) 39(-6.2,-8.6) 40(-5.8,-8.6) 41(-5.4,-8.6) 42(-5,-8.6) 43(-4.6,-8.6) 44(-4.2,-8.6) 45(-3.8,-8.6) 46(-3.4,-8.6) 47(-3,-8.6) 48(-2.6,-8.6) 49(-2.2,-8.6) 50(-1.8,-8.6) 51(-1.4,-8.6) 52(-1,-8.6) 53(-0.6,-8.6) 54(-0.2,-8.6) 55(0.2,-8.6) 56(0.6,-8.6) 57(1,-8.6) 58(1.4,-8.6) 59(1.8,-8.6) 60(2.2,-8.6) 61(2.6,-8.6) 62(3,-8.6) 63(3.4,-8.6) 64(3.8,-8.6) 65(4.2,-8.6) 66(4.6,-8.6) 67(5,-8.6) 68(5.4,-8.6) 69(5.8,-8.6) 70(6.2,-8.6) 71(6.6,-8.6) 72(7,-8.6) 109(7,8.6) 110(6.6,8.6) 111(6.2,8.6) 112(5.8,8.6) 113(5.4,8.6) 114(5,8.6) 115(4.6,8.6) 116(4.2,8.6) 117(3.8,8.6) 118(3.4,8.6) 119(3,8.6) 120(2.6,8.6) 121(2.2,8.6) 122(1.8,8.6) 123(1.4,8.6) 124(1,8.6) 125(0.6,8.6) 126(0.2,8.6) 127(-0.2,8.6) 128(-0.6,8.6) 129(-1,8.6) 130(-1.4,8.6) 131(-1.8,8.6) 132(-2.2,8.6) 133(-2.6,8.6) 134(-3,8.6) 135(-3.4,8.6) 136(-3.8,8.6) 137(-4.2,8.6) 138(-4.6,8.6) 139(-5,8.6) 140(-5.4,8.6) 141(-5.8,8.6) 142(-6.2,8.6) 143(-6.6,8.6) 144(-7,8.6)
Top Overlay:
  circle w0.25: c-8.6,7.675 r0.125
  circle w0.6: c-6.375,6.375 r0.3
  lines w0.2: -7.375,-7.375 -7.375,7.375 7.375,7.375 7.375,-7.375 -7.375,-7.375
Mechanical 13:
  circle w0.1: c-7.1,7.1 r0.5
  lines w0.1: -8,-8 -8,8 8,8 8,-8 -8,-8
Mechanical 15:
  lines w0.05: -9.65,-9.65 -9.65,9.65 9.65,9.65 9.65,-9.65 -9.65,-9.65
  lines w0.1: -0.5,0 0.5,0 ; 0,-0.5 0,0.5
3D body: height 1.2, standoff 0.05, extent -8,-8 8,8

## MCHP-TQFP-PT100_L [mm] "QFP, 100-Leads, Body 12x12mm, Pitch 0.4mm, IPC High Density"
height 1.2
pads (100):
  oval 1.55x0.25 smd: 1(-6.525,4.8) 2(-6.525,4.4) 3(-6.525,4) 4(-6.525,3.6) 5(-6.525,3.2) 6(-6.525,2.8) 7(-6.525,2.4) 8(-6.525,2) 9(-6.525,1.6) 10(-6.525,1.2) 11(-6.525,0.8) 12(-6.525,0.4) 13(-6.525,0) 14(-6.525,-0.4) 15(-6.525,-0.8) 16(-6.525,-1.2) 17(-6.525,-1.6) 18(-6.525,-2) 19(-6.525,-2.4) 20(-6.525,-2.8) 21(-6.525,-3.2) 22(-6.525,-3.6) 23(-6.525,-4) 24(-6.525,-4.4) 25(-6.525,-4.8) 51(6.525,-4.8) 52(6.525,-4.4) 53(6.525,-4) 54(6.525,-3.6) 55(6.525,-3.2) 56(6.525,-2.8) 57(6.525,-2.4) 58(6.525,-2) 59(6.525,-1.6) 60(6.525,-1.2) 61(6.525,-0.8) 62(6.525,-0.4) 63(6.525,0) 64(6.525,0.4) 65(6.525,0.8) 66(6.525,1.2) 67(6.525,1.6) 68(6.525,2) 69(6.525,2.4) 70(6.525,2.8) 71(6.525,3.2) 72(6.525,3.6) 73(6.525,4) 74(6.525,4.4) 75(6.525,4.8)
  oval 0.25x1.55 smd: 26(-4.8,-6.525) 27(-4.4,-6.525) 28(-4,-6.525) 29(-3.6,-6.525) 30(-3.2,-6.525) 31(-2.8,-6.525) 32(-2.4,-6.525) 33(-2,-6.525) 34(-1.6,-6.525) 35(-1.2,-6.525) 36(-0.8,-6.525) 37(-0.4,-6.525) 38(0,-6.525) 39(0.4,-6.525) 40(0.8,-6.525) 41(1.2,-6.525) 42(1.6,-6.525) 43(2,-6.525) 44(2.4,-6.525) 45(2.8,-6.525) 46(3.2,-6.525) 47(3.6,-6.525) 48(4,-6.525) 49(4.4,-6.525) 50(4.8,-6.525) 76(4.8,6.525) 77(4.4,6.525) 78(4,6.525) 79(3.6,6.525) 80(3.2,6.525) 81(2.8,6.525) 82(2.4,6.525) 83(2,6.525) 84(1.6,6.525) 85(1.2,6.525) 86(0.8,6.525) 87(0.4,6.525) 88(0,6.525) 89(-0.4,6.525) 90(-0.8,6.525) 91(-1.2,6.525) 92(-1.6,6.525) 93(-2,6.525) 94(-2.4,6.525) 95(-2.8,6.525) 96(-3.2,6.525) 97(-3.6,6.525) 98(-4,6.525) 99(-4.4,6.525) 100(-4.8,6.525)
Top Overlay:
  circle w0.25: c-6.525,5.475 r0.125
  circle w0.6: c-4.35,4.35 r0.3
  lines w0.2: -5.35,-5.35 -5.35,5.35 5.35,5.35 5.35,-5.35 -5.35,-5.35
Mechanical 13:
  circle w0.1: c-5.1,5.1 r0.5
  lines w0.1: -6,-6 -6,6 6,6 6,-6 -6,-6
Mechanical 15:
  lines w0.05: -7.4,-7.4 -7.4,7.4 7.4,7.4 7.4,-7.4 -7.4,-7.4
  lines w0.1: -0.5,0 0.5,0 ; 0,-0.5 0,0.5
3D body: height 1.2, standoff 0.05, extent -6,-6 6,6

## MCHP-TQFP-PT100_M [mm] "TQFP, 100-Leads, Body 12x12mm, Pitch 0.4mm, IPC Low Density"
height 1.2
pads (100):
  oval 2.1x0.3 smd: 1(-6.6,4.8) 2(-6.6,4.4) 3(-6.6,4) 4(-6.6,3.6) 5(-6.6,3.2) 6(-6.6,2.8) 7(-6.6,2.4) 8(-6.6,2) 9(-6.6,1.6) 10(-6.6,1.2) 11(-6.6,0.8) 12(-6.6,0.4) 13(-6.6,0) 14(-6.6,-0.4) 15(-6.6,-0.8) 16(-6.6,-1.2) 17(-6.6,-1.6) 18(-6.6,-2) 19(-6.6,-2.4) 20(-6.6,-2.8) 21(-6.6,-3.2) 22(-6.6,-3.6) 23(-6.6,-4) 24(-6.6,-4.4) 25(-6.6,-4.8) 51(6.6,-4.8) 52(6.6,-4.4) 53(6.6,-4) 54(6.6,-3.6) 55(6.6,-3.2) 56(6.6,-2.8) 57(6.6,-2.4) 58(6.6,-2) 59(6.6,-1.6) 60(6.6,-1.2) 61(6.6,-0.8) 62(6.6,-0.4) 63(6.6,0) 64(6.6,0.4) 65(6.6,0.8) 66(6.6,1.2) 67(6.6,1.6) 68(6.6,2) 69(6.6,2.4) 70(6.6,2.8) 71(6.6,3.2) 72(6.6,3.6) 73(6.6,4) 74(6.6,4.4) 75(6.6,4.8)
  oval 0.3x2.1 smd: 26(-4.8,-6.6) 27(-4.4,-6.6) 28(-4,-6.6) 29(-3.6,-6.6) 30(-3.2,-6.6) 31(-2.8,-6.6) 32(-2.4,-6.6) 33(-2,-6.6) 34(-1.6,-6.6) 35(-1.2,-6.6) 36(-0.8,-6.6) 37(-0.4,-6.6) 38(0,-6.6) 39(0.4,-6.6) 40(0.8,-6.6) 41(1.2,-6.6) 42(1.6,-6.6) 43(2,-6.6) 44(2.4,-6.6) 45(2.8,-6.6) 46(3.2,-6.6) 47(3.6,-6.6) 48(4,-6.6) 49(4.4,-6.6) 50(4.8,-6.6) 76(4.8,6.6) 77(4.4,6.6) 78(4,6.6) 79(3.6,6.6) 80(3.2,6.6) 81(2.8,6.6) 82(2.4,6.6) 83(2,6.6) 84(1.6,6.6) 85(1.2,6.6) 86(0.8,6.6) 87(0.4,6.6) 88(0,6.6) 89(-0.4,6.6) 90(-0.8,6.6) 91(-1.2,6.6) 92(-1.6,6.6) 93(-2,6.6) 94(-2.4,6.6) 95(-2.8,6.6) 96(-3.2,6.6) 97(-3.6,6.6) 98(-4,6.6) 99(-4.4,6.6) 100(-4.8,6.6)
Top Overlay:
  circle w0.6: c-4.15,4.15 r0.3
  circle w0.25: c-6.6,5.475 r0.125
  lines w0.2: -5.15,-5.15 5.15,-5.15 5.15,5.15 -5.15,5.15 -5.15,-5.15
Mechanical 13:
  circle w0.1: c-5.1,5.1 r0.5
  lines w0.1: -6,-6 6,-6 6,6 -6,6 -6,-6
Mechanical 15:
  lines w0.05: -8.15,-8.15 8.15,-8.15 8.15,8.15 -8.15,8.15 -8.15,-8.15
  lines w0.1: -0.5,0 0.5,0 ; 0,-0.5 0,0.5
3D body: height 1.2, standoff 0.05, extent -6,-6 6,6

## MCHP-TQFP-PT100_N [mm] "QFP, 100-Leads, Body 12x12mm, Pitch 0.4mm, IPC Medium Density"
height 1.2
pads (100):
  oval 1.8x0.3 smd: 1(-6.55,4.8) 2(-6.55,4.4) 3(-6.55,4) 4(-6.55,3.6) 5(-6.55,3.2) 6(-6.55,2.8) 7(-6.55,2.4) 8(-6.55,2) 9(-6.55,1.6) 10(-6.55,1.2) 11(-6.55,0.8) 12(-6.55,0.4) 13(-6.55,0) 14(-6.55,-0.4) 15(-6.55,-0.8) 16(-6.55,-1.2) 17(-6.55,-1.6) 18(-6.55,-2) 19(-6.55,-2.4) 20(-6.55,-2.8) 21(-6.55,-3.2) 22(-6.55,-3.6) 23(-6.55,-4) 24(-6.55,-4.4) 25(-6.55,-4.8) 51(6.55,-4.8) 52(6.55,-4.4) 53(6.55,-4) 54(6.55,-3.6) 55(6.55,-3.2) 56(6.55,-2.8) 57(6.55,-2.4) 58(6.55,-2) 59(6.55,-1.6) 60(6.55,-1.2) 61(6.55,-0.8) 62(6.55,-0.4) 63(6.55,0) 64(6.55,0.4) 65(6.55,0.8) 66(6.55,1.2) 67(6.55,1.6) 68(6.55,2) 69(6.55,2.4) 70(6.55,2.8) 71(6.55,3.2) 72(6.55,3.6) 73(6.55,4) 74(6.55,4.4) 75(6.55,4.8)
  oval 0.3x1.8 smd: 26(-4.8,-6.55) 27(-4.4,-6.55) 28(-4,-6.55) 29(-3.6,-6.55) 30(-3.2,-6.55) 31(-2.8,-6.55) 32(-2.4,-6.55) 33(-2,-6.55) 34(-1.6,-6.55) 35(-1.2,-6.55) 36(-0.8,-6.55) 37(-0.4,-6.55) 38(0,-6.55) 39(0.4,-6.55) 40(0.8,-6.55) 41(1.2,-6.55) 42(1.6,-6.55) 43(2,-6.55) 44(2.4,-6.55) 45(2.8,-6.55) 46(3.2,-6.55) 47(3.6,-6.55) 48(4,-6.55) 49(4.4,-6.55) 50(4.8,-6.55) 76(4.8,6.55) 77(4.4,6.55) 78(4,6.55) 79(3.6,6.55) 80(3.2,6.55) 81(2.8,6.55) 82(2.4,6.55) 83(2,6.55) 84(1.6,6.55) 85(1.2,6.55) 86(0.8,6.55) 87(0.4,6.55) 88(0,6.55) 89(-0.4,6.55) 90(-0.8,6.55) 91(-1.2,6.55) 92(-1.6,6.55) 93(-2,6.55) 94(-2.4,6.55) 95(-2.8,6.55) 96(-3.2,6.55) 97(-3.6,6.55) 98(-4,6.55) 99(-4.4,6.55) 100(-4.8,6.55)
Top Overlay:
  circle w0.25: c-6.55,5.5 r0.125
  circle w0.6: c-4.25,4.25 r0.3
  lines w0.2: -5.25,-5.25 -5.25,5.25 5.25,5.25 5.25,-5.25 -5.25,-5.25
Mechanical 13:
  circle w0.1: c-5.1,5.1 r0.5
  lines w0.1: -6,-6 -6,6 6,6 6,-6 -6,-6
Mechanical 15:
  lines w0.05: -7.7,-7.7 -7.7,7.7 7.7,7.7 7.7,-7.7 -7.7,-7.7
  lines w0.1: -0.5,0 0.5,0 ; 0,-0.5 0,0.5
3D body: height 1.2, standoff 0.05, extent -6,-6 6,6

## MCHP-VTLA-TL124_V [mm] "VTLA, 124-Leads, Body 9x9mm, Pitch 0.5mm, Thermal Pad 6.7X6.7mm"
height 0.9
pads (125):
  rect 0.3x0.3 smd: A1(-4.25,3.75) A2(-4.25,3.25) A3(-4.25,2.75) A4(-4.25,2.25) A5(-4.25,1.75) A6(-4.25,1.25) A7(-4.25,0.75) A8(-4.25,0.25) A9(-4.25,-0.25) A10(-4.25,-0.75) A11(-4.25,-1.25) A12(-4.25,-1.75) A13(-4.25,-2.25) A14(-4.25,-2.75) A15(-4.25,-3.25) A16(-4.25,-3.75) A17(-4.25,-4.25) A18(-3.75,-4.25) A19(-3.25,-4.25) A20(-2.75,-4.25) A21(-2.25,-4.25) A22(-1.75,-4.25) A23(-1.25,-4.25) A24(-0.75,-4.25) A25(-0.25,-4.25) A26(0.25,-4.25) A27(0.75,-4.25) A28(1.25,-4.25) A29(1.75,-4.25) A30(2.25,-4.25) A31(2.75,-4.25) A32(3.25,-4.25) A33(3.75,-4.25) A34(4.25,-4.25) A35(4.25,-3.75) A36(4.25,-3.25) A37(4.25,-2.75) A38(4.25,-2.25) A39(4.25,-1.75) A40(4.25,-1.25) A41(4.25,-0.75) A42(4.25,-0.25) A43(4.25,0.25) A44(4.25,0.75) A45(4.25,1.25) A46(4.25,1.75) A47(4.25,2.25) A48(4.25,2.75) A49(4.25,3.25) A50(4.25,3.75) A51(4.25,4.25) A52(3.75,4.25) A53(3.25,4.25) A54(2.75,4.25) A55(2.25,4.25) A56(1.75,4.25) A57(1.25,4.25) A58(0.75,4.25) A59(0.25,4.25) A60(-0.25,4.25) A61(-0.75,4.25) A62(-1.25,4.25) A63(-1.75,4.25) A64(-2.25,4.25) A65(-2.75,4.25) A66(-3.25,4.25) A67(-3.75,4.25) A68(-4.25,4.25) B1(-3.75,3) B2(-3.75,2.5) B3(-3.75,2) B4(-3.75,1.5) B5(-3.75,1) B6(-3.75,0.5) B7(-3.75,0) B8(-3.75,-0.5) B9(-3.75,-1) B10(-3.75,-1.5) B11(-3.75,-2) B12(-3.75,-2.5) B13(-3.75,-3) B14(-3.5,-3.75) B15(-3,-3.75) B16(-2.5,-3.75) B17(-2,-3.75) B18(-1.5,-3.75) B19(-1,-3.75) B20(-0.5,-3.75) B21(0,-3.75) B22(0.5,-3.75) B23(1,-3.75) B24(1.5,-3.75) B25(2,-3.75) B26(2.5,-3.75) B27(3,-3.75) B28(3.5,-3.75) B29(3.75,-3) B30(3.75,-2.5) B31(3.75,-2) B32(3.75,-1.5) B33(3.75,-1) B34(3.75,-0.5) B35(3.75,0) B36(3.75,0.5) B37(3.75,1) B38(3.75,1.5) B39(3.75,2) B40(3.75,2.5) B41(3.75,3) B42(3.5,3.75) B43(3,3.75) B44(2.5,3.75) B45(2,3.75) B46(1.5,3.75) B47(1,3.75) B48(0.5,3.75) B49(0,3.75) B50(-0.5,3.75) B51(-1,3.75) B52(-1.5,3.75) B53(-2,3.75) B54(-2.5,3.75) B55(-3,3.75) B56(-3.5,3.75)
  rect 6.7x6.7 smd: B57(0,0)
via -2.75,-2.75 diameter 0.5 hole 0.2
via -1.65,-2.75 diameter 0.5 hole 0.2
via -0.55,-2.75 diameter 0.5 hole 0.2
via 0.55,-2.75 diameter 0.5 hole 0.2
via 1.65,-2.75 diameter 0.5 hole 0.2
via -2.75,-1.65 diameter 0.5 hole 0.2
via -1.65,-1.65 diameter 0.5 hole 0.2
via -0.55,-1.65 diameter 0.5 hole 0.2
via 0.55,-1.65 diameter 0.5 hole 0.2
via 1.65,-1.65 diameter 0.5 hole 0.2
via -2.75,-0.55 diameter 0.5 hole 0.2
via -1.65,-0.55 diameter 0.5 hole 0.2
via -0.55,-0.55 diameter 0.5 hole 0.2
via 0.55,-0.55 diameter 0.5 hole 0.2
via 1.65,-0.55 diameter 0.5 hole 0.2
via -2.75,0.55 diameter 0.5 hole 0.2
via -1.65,0.55 diameter 0.5 hole 0.2
via -0.55,0.55 diameter 0.5 hole 0.2
via 0.55,0.55 diameter 0.5 hole 0.2
via 1.65,0.55 diameter 0.5 hole 0.2
via 2.75,0.55 diameter 0.5 hole 0.2
via -2.75,1.65 diameter 0.5 hole 0.2
via -1.65,1.65 diameter 0.5 hole 0.2
via -0.55,1.65 diameter 0.5 hole 0.2
via 0.55,1.65 diameter 0.5 hole 0.2
via 1.65,1.65 diameter 0.5 hole 0.2
via 2.75,1.65 diameter 0.5 hole 0.2
via -2.75,2.75 diameter 0.5 hole 0.2
via -1.65,2.75 diameter 0.5 hole 0.2
via -0.55,2.75 diameter 0.5 hole 0.2
via 0.55,2.75 diameter 0.5 hole 0.2
via 1.65,2.75 diameter 0.5 hole 0.2
via 2.75,-2.75 diameter 0.5 hole 0.2
via 2.75,-1.65 diameter 0.5 hole 0.2
via 2.75,-0.55 diameter 0.5 hole 0.2
via 2.75,2.75 diameter 0.5 hole 0.2
Top Overlay:
  circle w0.25: c-4.95,3.75 r0.125
Mechanical 13:
  lines w0.1: -4.5,-4.5 4.5,-4.5 4.5,4.5 -4.5,4.5 -4.5,-4.5
Mechanical 15:
  lines w0.05: -4.6,-4.6 4.6,-4.6 4.6,4.6 -4.6,4.6 -4.6,-4.6
  lines w0.1: -0.5,0 0.5,0 ; 0,-0.5 0,0.5
3D body: height 0.9, standoff 0, extent -4.5,-4.5 4.5,4.5